# Altium integrated library FT234XD-R.IntLib: 1 symbol
Pins are listed as number, name and electrical type; pins without a type are passive.

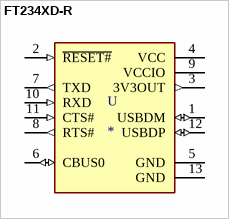
[diagram p0: symbol FT234XD-R]

## FT234XD-R
designator U
USB Bridge, USB to UART USB 2.0 UART Interface 12-DFN _3x3_; MP: FT234XD-R; MF: FTDI,; SnapEDA_Link: https://www.snapeda.com/parts/FT234XD-R/FTDI,%20Future%20Technology%20Devices%20International%20Ltd/view-part/207972/?ref=snap; Package: DFN-12 FTDI; Price: None; Value: *; Availability: Unavailable
footprint SON45P300X300X80-13N
pins: 1 USBDM (io), 2 ~{RESET#} (in), 3 3V3OUT (out), 4 VCC (power), 5 GND (power), 6 CBUS0 (io), 7 TXD (out), 8 RTS# (out), 9 VCCIO (power), 10 RXD (in), 11 CTS# (in), 12 USBDP (io), 13 GND (power)